# Altium footprint library PCB_Project_PCBparts.PcbLib: 18 footprints (part 2 of 2)
Each footprint in its own frame and in the unit in brackets; x right, y up, seen from the top. Pads: shape width x height; smd on the part's side, far side on the other; paste and mask are expansions set on the pad; w line width, h text height; cw(c..) or ccw(c..) is an arc to the next point about the centre after c.
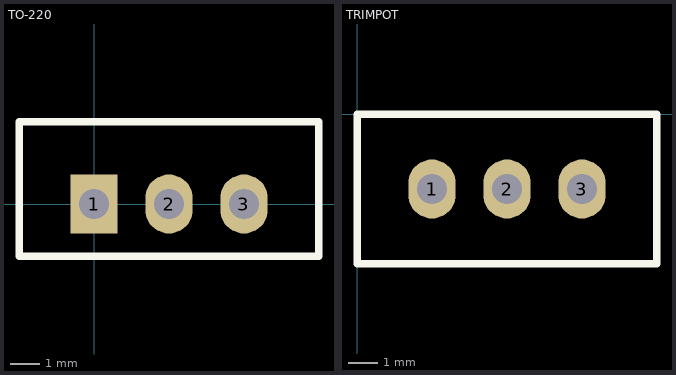
[diagram p1: the footprints below, top view; thin cyan lines are the x and y axes]

## TO-220 [mm]
pads (3):
  rect 1.6x2 hole 1: 1(0,0)
  oval 1.6x2 hole 1: 2(2.54,0) 3(5.08,0)
Top Overlay:
  lines w0.254: -2.54,-1.778 -2.54,2.794 7.62,2.794 7.62,-1.778 -2.54,-1.778

## TRIMPOT [mm]
pads (3):
  oval 1.6x2 hole 1: 1(2.54,-2.54) 2(5.08,-2.54) 3(7.62,-2.54)
Top Overlay:
  lines w0.254: 0,-5.08 10.16,-5.08 10.16,0 0,0 0,-5.08